# Altium integrated library Power_Electronics_Integrated_Library.IntLib: 18 symbols
Pins are listed as number, name and electrical type; pins without a type are passive.

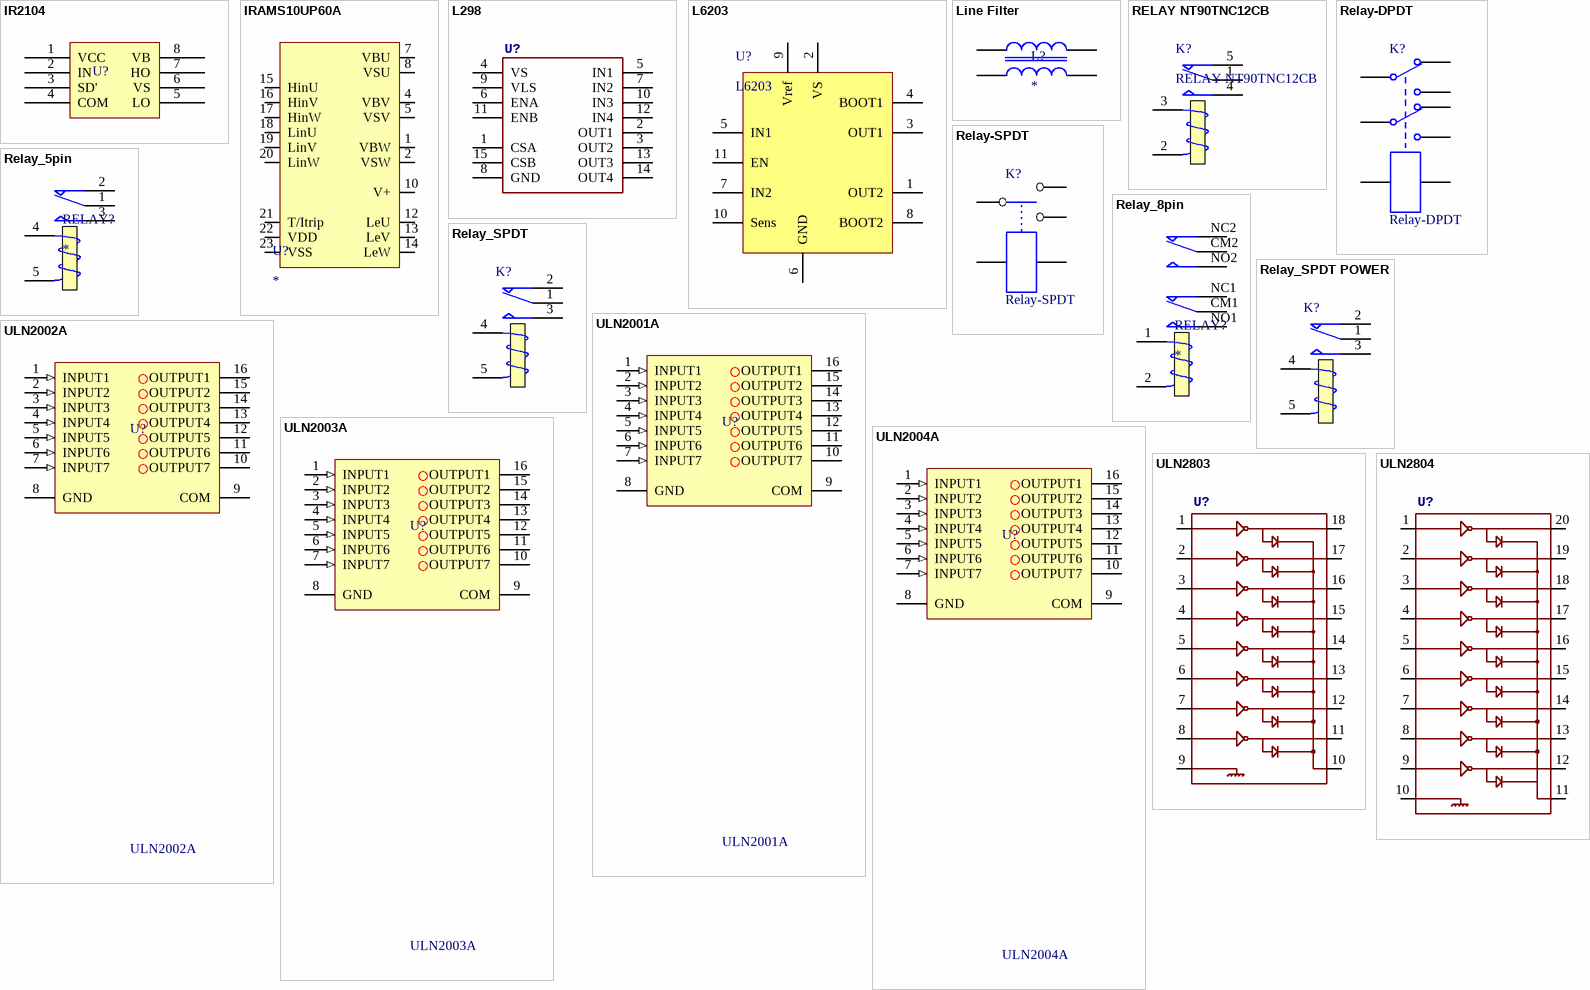
[diagram p0: symbols IR2104 to ULN2804]

## IR2104
designator U?
footprint _DIP8 (DIP, 8-Pin, Row Spacing 7.62 mm, Pitch 2.54 mm)
footprint _SO08
pins: 1 VCC, 2 IN, 3 SD', 4 COM, 5 LO, 6 VS, 7 HO, 8 VB

## IRAMS10UP60A
designator U?
footprint IRAMS10UP60A
pins: 1 VBW, 2 VSW, 4 VBV, 5 VSV, 7 VBU, 8 VSU, 10 V+, 12 LeU, 13 LeV, 14 LeW, 15 HinU, 16 HinV, 17 HinW, 18 LinU, 19 LinV, 20 LinW, 21 T/Itrip, 22 VDD, 23 VSS

## L298
designator U?  (value not drawn)
footprint _MULTIWATT15
pins: 1 CSA, 2 OUT1, 3 OUT2, 4 VS, 5 IN1, 6 ENA, 7 IN2, 8 GND, 9 VLS, 10 IN3, 11 ENB, 12 IN4, 13 OUT3, 14 OUT4, 15 CSB

## L6203
designator U?
DMOS FULL BRIDGE DRIVER; Designer: Saeid Jorablo; Company: ControTEK; Adding Date: 1387/01/08
footprint MUlTIWATT11 (Use For L6203)
pins: 1 OUT2, 2 VS, 3 OUT1, 4 BOOT1, 5 IN1, 6 GND, 7 IN2, 8 BOOT2, 9 Vref, 10 Sens, 11 EN

## Line Filter
designator L?
footprint _line filter 1
pins: 1, 2 1, 3 2, 4 2

## RELAY NT90TNC12CB
designator K?
Relay_SPDT POWER NEEDLE; Designer: Abbas Basereh; PackageDescription: 31.7x26.7x28; PackageReference: RELAY NT90TNC12CB; Mounting Technology: Through-Hole; Value: RELAY NT90TNC12CB; ComponentLink1Description: Datasheet; Pin Count: 0; Update Date: 2017-3-4; Category: NT90TNC12CB
footprint RELAY NT90TNC12CB (31.7x26.7x28 DESIGNER:ABBAS BASEREH)
pins: 1 COM, 2 T2, 3 T1, 4 NO, 5 NC

## Relay-DPDT
designator K?
Dual-Pole Dual-Throw Relay; Published: 24-Mar-1999; LatestRevisionDate: 17-Jul-2002; LatestRevisionNote: Re-released for DXP Platform.; PackageReference: DIP-P8; Publisher: Altium Limited
footprint My_REL_cochick
pins: 1, 2, O1, O2, P1, P2, S1, S2

## Relay-SPDT
designator K?
standard single contact relay
footprint My_rel
pins: 1, 2, 3, 4, 5

## Relay_5pin
designator RELAY?
footprint _Relay 10A
footprint _RELAY 30A
pins: 1 COM, 2 NC, 3 NO, 4 T1, 5 T2

## Relay_8pin
designator RELAY?
footprint _Relay Double
pins: 1 T1, 2 T2, CM1 COM, CM2 COM, NC1 NC, NC2 NC, NO1 NO, NO2 NO

## Relay_SPDT
designator K?
Single-Pole Dual-Throw Relay; Designer: Abbas Basereh; Mounting Technology: Through-Hole; ComponentLink1Description: Datasheet; Pin Count: 0; Update Date: 2017-3-1
footprint Relay 18.85x15.35x15.70
pins: 1 COM, 2 NC, 3 NO, 4 T1, 5 T2

## Relay_SPDT POWER
designator K?
Relay_SPDT POWER NEEDLE; Designer: Abbas Basereh; Mounting Technology: Through-Hole; ComponentLink1Description: Datasheet; Pin Count: 0; Update Date: 2017-3-1
footprint Relay Needle 31.7x26.7x28 (DESIGNER ABBAS BASEREH)
pins: 1 COM, 2 NC, 3 NO, 4 T1, 5 T2

## ULN2001A
designator U?
SEVEN DARLINGTON ARRAYS; Published: 2017-3-2; DatasheetVersion: STMicroelectronics GROUP OF COMPANIES; PackageVersion: 2017-3-2; PackageReference: SO16_N; Publisher: Abbas Basereh; PackageDescription: 16-Pin Small Outline Integrated Circuit 1.27 mm Pitch, IPC High Density; Supplier 1: Digi-Key; Supplier Part Number 1: ULN2001A; Supplier 2: Mouser; Supplier Part Number 2: ULN2001A; ComponentLink1Description: Datasheet; ComponentLink2URL: http://www.st.com
footprint SO16_L (16-Pin Small Outline Integrated Circuit 1.27 mm Pitch, IPC High Density - DESIGNER ABBAS BASEREH)
footprint SO16_M (16-Pin Small Outline Integrated Circuit 1.27 mm Pitch, IPC Low Density - DESIGNER ABBAS BASEREH)
footprint SO16_N (16-Pin Small Outline Integrated Circuit 1.27 mm Pitch, IPC Medium Density - DESIGNER ABBAS BASEREH)
pins: 1 INPUT1 (in), 2 INPUT2 (in), 3 INPUT3 (in), 4 INPUT4 (in), 5 INPUT5 (in), 6 INPUT6 (in), 7 INPUT7 (in), 8 GND (power), 9 COM (power), 10 OUTPUT7, 11 OUTPUT6, 12 OUTPUT5, 13 OUTPUT4, 14 OUTPUT3, 15 OUTPUT2, 16 OUTPUT1

## ULN2002A
designator U?
SEVEN DARLINGTON ARRAYS; Published: 2017-3-2; DatasheetVersion: STMicroelectronics GROUP OF COMPANIES; PackageVersion: 2017-3-2; PackageReference: SO16_N; Publisher: Abbas Basereh; PackageDescription: 16-Pin Small Outline Integrated Circuit 1.27 mm Pitch, IPC High Density; Supplier 1: Digi-Key; Supplier Part Number 1: ULN2002A; Supplier 2: Mouser; Supplier Part Number 2: ULN2002A; ComponentLink1Description: Datasheet; ComponentLink2URL: http://www.st.com
footprint SO16_L (16-Pin Small Outline Integrated Circuit 1.27 mm Pitch, IPC High Density - DESIGNER ABBAS BASEREH)
footprint SO16_M (16-Pin Small Outline Integrated Circuit 1.27 mm Pitch, IPC Low Density - DESIGNER ABBAS BASEREH)
footprint SO16_N (16-Pin Small Outline Integrated Circuit 1.27 mm Pitch, IPC Medium Density - DESIGNER ABBAS BASEREH)
pins: 1 INPUT1 (in), 2 INPUT2 (in), 3 INPUT3 (in), 4 INPUT4 (in), 5 INPUT5 (in), 6 INPUT6 (in), 7 INPUT7 (in), 8 GND (power), 9 COM (power), 10 OUTPUT7, 11 OUTPUT6, 12 OUTPUT5, 13 OUTPUT4, 14 OUTPUT3, 15 OUTPUT2, 16 OUTPUT1

## ULN2003A
designator U?
SEVEN DARLINGTON ARRAYS; Published: 2017-3-2; DatasheetVersion: STMicroelectronics GROUP OF COMPANIES; PackageVersion: 2017-3-2; PackageReference: SO16_N; Publisher: Abbas Basereh; PackageDescription: 16-Pin Small Outline Integrated Circuit 1.27 mm Pitch, IPC High Density; Supplier 1: Digi-Key; Supplier Part Number 1: ULN2003A; Supplier 2: Mouser; Supplier Part Number 2: ULN2003A; ComponentLink1Description: Datasheet; ComponentLink2URL: http://www.st.com
footprint SO16_L (16-Pin Small Outline Integrated Circuit 1.27 mm Pitch, IPC High Density - DESIGNER ABBAS BASEREH)
footprint SO16_M (16-Pin Small Outline Integrated Circuit 1.27 mm Pitch, IPC Low Density - DESIGNER ABBAS BASEREH)
footprint SO16_N (16-Pin Small Outline Integrated Circuit 1.27 mm Pitch, IPC Medium Density - DESIGNER ABBAS BASEREH)
pins: 1 INPUT1 (in), 2 INPUT2 (in), 3 INPUT3 (in), 4 INPUT4 (in), 5 INPUT5 (in), 6 INPUT6 (in), 7 INPUT7 (in), 8 GND (power), 9 COM (power), 10 OUTPUT7, 11 OUTPUT6, 12 OUTPUT5, 13 OUTPUT4, 14 OUTPUT3, 15 OUTPUT2, 16 OUTPUT1

## ULN2004A
designator U?
SEVEN DARLINGTON ARRAYS; Published: 2017-3-2; DatasheetVersion: STMicroelectronics GROUP OF COMPANIES; PackageVersion: 2017-3-2; PackageReference: SO16_N; Publisher: Abbas Basereh; PackageDescription: 16-Pin Small Outline Integrated Circuit 1.27 mm Pitch, IPC High Density; Supplier 1: Digi-Key; Supplier Part Number 1: ULN2004A; Supplier 2: Mouser; Supplier Part Number 2: ULN2004A; ComponentLink1Description: Datasheet; ComponentLink2URL: http://www.st.com
footprint SO16_L (16-Pin Small Outline Integrated Circuit 1.27 mm Pitch, IPC High Density - DESIGNER ABBAS BASEREH)
footprint SO16_M (16-Pin Small Outline Integrated Circuit 1.27 mm Pitch, IPC Low Density - DESIGNER ABBAS BASEREH)
footprint SO16_N (16-Pin Small Outline Integrated Circuit 1.27 mm Pitch, IPC Medium Density - DESIGNER ABBAS BASEREH)
pins: 1 INPUT1 (in), 2 INPUT2 (in), 3 INPUT3 (in), 4 INPUT4 (in), 5 INPUT5 (in), 6 INPUT6 (in), 7 INPUT7 (in), 8 GND (power), 9 COM (power), 10 OUTPUT7, 11 OUTPUT6, 12 OUTPUT5, 13 OUTPUT4, 14 OUTPUT3, 15 OUTPUT2, 16 OUTPUT1

## ULN2803
designator U?
footprint _DIP18
footprint _DIP18-KIT (Footprint not found)
footprint _SO18W
pins: 1, 2, 3, 4, 5, 6, 7, 8, 9, 10, 11, 12, 13, 14, 15, 16, 17, 18

## ULN2804
designator U?
footprint _DIP20 (DIP, 20-Pin, Row Spacing 7.62 mm, Pitch 2.54 mm)
footprint _DIP20-KIT (Footprint not found)
footprint _SO20L (SOIC, 20-Leads, Body 12.8x7.5mm, Pitch 1.27mm, IPC High Density)
pins: 1, 2, 3, 4, 5, 6, 7, 8, 9, 10, 11, 12, 13, 14, 15, 16, 17, 18, 19, 20